# Altium footprint library tc2050.PcbLib: 2 footprints
Each footprint in its own frame and in the unit in brackets; x right, y up, seen from the top. Pads: shape width x height; smd on the part's side, far side on the other; paste and mask are expansions set on the pad; w line width, h text height; cw(c..) or ccw(c..) is an arc to the next point about the centre after c.
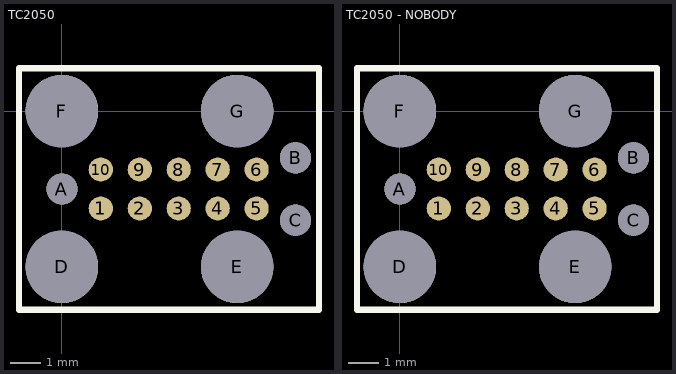
[diagram p0: the footprints below, top view; thin cyan lines are the x and y axes]

## TC2050 [mil] "TAG CONNECT PLUG  OF NAILS VICTIM AND PLUG BODY"
pads (17):
  round 31 smd paste-40: 1(50,-125) 2(100,-125) 3(150,-125) 4(200,-125) 5(250,-125) 6(250,-75) 7(200,-75) 8(150,-75) 9(100,-75) 10(50,-75)
  round 40 hole 40 unplated: A(0,-100) B(300,-60) C(300,-140)
  round 93 hole 93 unplated: D(0,-200) E(225,-200) F(0,0) G(225,0)
Top Overlay:
  lines w7.87: -55,-255 -55,55 330,55 330,-255 -55,-255
3D body: height 1177.83, standoff -172.07, extent -110,-286.86 390,86.85

## TC2050 - NOBODY [mil] "TAG CONNECT PLUG OF NAILS VICTIM"
pads (17):
  round 31 smd paste-40: 1(50,-125) 2(100,-125) 3(150,-125) 4(200,-125) 5(250,-125) 6(250,-75) 7(200,-75) 8(150,-75) 9(100,-75) 10(50,-75)
  round 40 hole 40 unplated: A(0,-100) B(300,-60) C(300,-140)
  round 93 hole 93 unplated: D(0,-200) E(225,-200) F(0,0) G(225,0)
Top Overlay:
  lines w7.87: -55,-255 330,-255 330,55 -55,55 -55,-255